# EAGLE library part KCSA02 (library AWJLEagleLib)
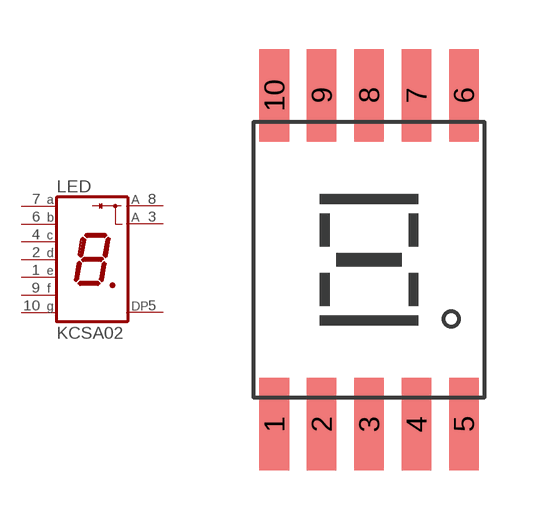
[diagram p10: symbol with the pads of KCSA02; footprint KCSA02]

Designator prefix LED

## KCSA02  [KCSA02]
1  E  pas
2  D  pas
3  A  pas
4  C  pas
5  DP  pas
6  B  pas
7  A  pas
8  A  pas
9  F  pas
10  G  pas

## Footprint KCSA02 (pad centres in mm)
smd 0.9 x 2.8: 1 -2.88,-5; 2 -1.44,-5; 3 0,-5; 4 1.44,-5; 5 2.88,-5; 6 2.88,5; 7 1.44,5; 8 0,5; 9 -1.44,5; 10 -2.88,5